# Altium footprint library PCB - CONNECTOR - MISC - SCHMARTBOARD - 920-0088-01.PcbLib: 1 footprints
Each footprint in its own frame and in the unit in brackets; x right, y up, seen from the top. Pads: shape width x height; smd on the part's side, far side on the other; paste and mask are expansions set on the pad; w line width, h text height; cw(c..) or ccw(c..) is an arc to the next point about the centre after c.
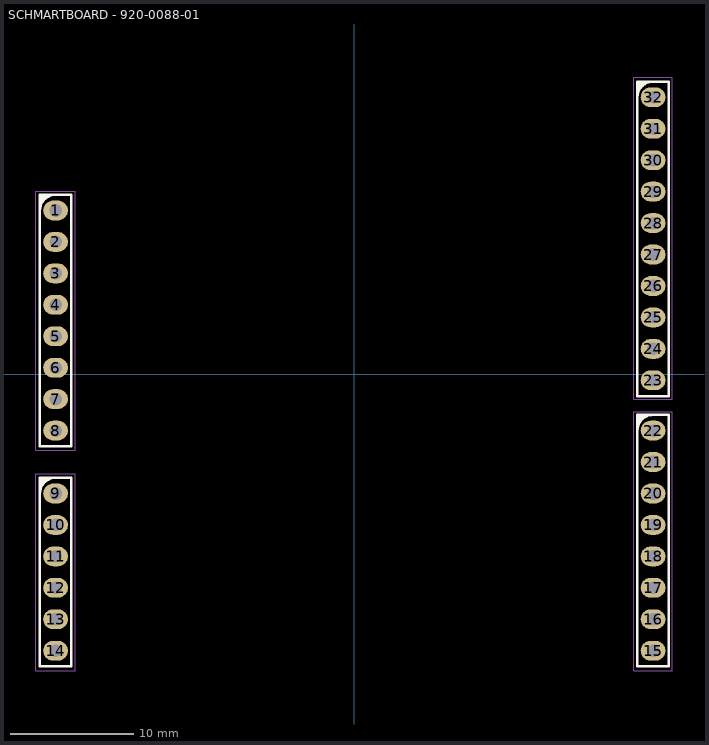
[diagram p0: the footprint, top view; thin cyan lines are the x and y axes]

## SCHMARTBOARD - 920-0088-01 [mm] "Arduino pin header set"
height 8.51
pads (32):
  oval 2x1.6 hole 1.02: 1(-24.13,13.21) 2(-24.13,10.67) 3(-24.13,8.13) 4(-24.13,5.59) 5(-24.13,3.05) 6(-24.13,0.51) 7(-24.13,-2.03) 8(-24.13,-4.57) 9(-24.13,-9.65) 10(-24.13,-12.19) 11(-24.13,-14.73) 12(-24.13,-17.27) 13(-24.13,-19.81) 14(-24.13,-22.35) 15(24.13,-22.35) 16(24.13,-19.81) 17(24.13,-17.27) 18(24.13,-14.73) 19(24.13,-12.19) 20(24.13,-9.65) 21(24.13,-7.11) 22(24.13,-4.57) 23(24.13,-0.51) 24(24.13,2.03) 25(24.13,4.57) 26(24.13,7.11) 27(24.13,9.65) 28(24.13,12.19) 29(24.13,14.73) 30(24.13,17.27) 31(24.13,19.81) 32(24.13,22.35)
Top Overlay:
  region: -25.4,-8.38 -24.13,-8.38 -24.25,-8.386 -24.486,-8.433 -24.708,-8.525 -24.908,-8.658 -24.997,-8.739 -25.041,-8.783 -25.122,-8.872 -25.255,-9.072 -25.347,-9.294 -25.394,-9.53 -25.4,-9.65
  region: -25.4,14.48 -24.13,14.48 -24.25,14.474 -24.486,14.427 -24.708,14.335 -24.908,14.202 -24.997,14.121 -25.041,14.077 -25.122,13.988 -25.255,13.788 -25.347,13.566 -25.394,13.33 -25.4,13.21
  region: 22.86,-3.3 24.13,-3.3 24.01,-3.306 23.774,-3.353 23.552,-3.445 23.352,-3.578 23.263,-3.659 23.219,-3.703 23.138,-3.792 23.005,-3.992 22.913,-4.214 22.866,-4.45 22.86,-4.57
  region: 22.86,23.62 24.13,23.62 24.01,23.614 23.774,23.567 23.552,23.475 23.352,23.342 23.263,23.261 23.219,23.217 23.138,23.128 23.005,22.928 22.913,22.706 22.866,22.47 22.86,22.35
  lines w0.2: -25.4,-9.65 cw(c-24.13,-9.65) -24.13,-8.38 ; -25.4,-9.65 -25.4,-23.62 -22.86,-23.62 -22.86,-8.38 -24.13,-8.38 ; -25.4,-9.65 -25.4,-8.38 -24.13,-8.38 ; -25.4,13.21 cw(c-24.13,13.21) -24.13,14.48 ; -25.4,13.21 -25.4,-5.84 -22.86,-5.84 -22.86,14.48 -24.13,14.48 ; -25.4,13.21 -25.4,14.48 -24.13,14.48 ; 22.86,-4.57 cw(c24.13,-4.57) 24.13,-3.3 ; 22.86,-4.57 22.86,-23.62 25.4,-23.62 25.4,-3.3 24.13,-3.3 ; 22.86,-4.57 22.86,-3.3 24.13,-3.3 ; 22.86,22.35 cw(c24.13,22.35) 24.13,23.62 ; 22.86,22.35 22.86,-1.78 25.4,-1.78 25.4,23.62 24.13,23.62 ; 22.86,22.35 22.86,23.62 24.13,23.62
Mechanical 13:
  lines w0.1: -25.4,-23.62 -25.4,-8.38 -22.86,-8.38 -22.86,-23.62 -25.4,-23.62 ; -25.4,-5.84 -25.4,14.48 -22.86,14.48 -22.86,-5.84 -25.4,-5.84 ; 22.86,-23.62 22.86,-3.3 25.4,-3.3 25.4,-23.62 22.86,-23.62 ; 22.86,-1.78 22.86,23.62 25.4,23.62 25.4,-1.78 22.86,-1.78
Mechanical 15:
  lines w0.05: -25.73,-23.95 -22.53,-23.95 -22.53,-8.067 -25.73,-8.067 -25.73,-23.95 ; -25.73,-6.15 -22.53,-6.15 -22.53,14.75 -25.73,14.75 -25.73,-6.15 ; 22.57,-23.95 25.67,-23.95 25.67,-3.05 22.57,-3.05 22.57,-23.95 ; 22.57,-2.05 25.67,-2.05 25.67,23.95 22.57,23.95 22.57,-2.05
3D body "10 Pin Long Tail Header.step": height 8.5, standoff -10.1, extent 22.86,-1.78 25.4,23.62
3D body "8 Pin Long Tail Header.step": height 8.5, standoff -10.1, extent 22.86,-23.62 25.4,-3.3
3D body "8 Pin Long Tail Header.step": height 8.5, standoff -10.1, extent -25.4,-5.84 -22.86,14.48
3D body "6 Pin Long Tail Header.step": height 8.5, standoff -10.1, extent -25.4,-23.62 -22.86,-8.38